# EAGLE library part CSPB-90 (library LW_DUB)
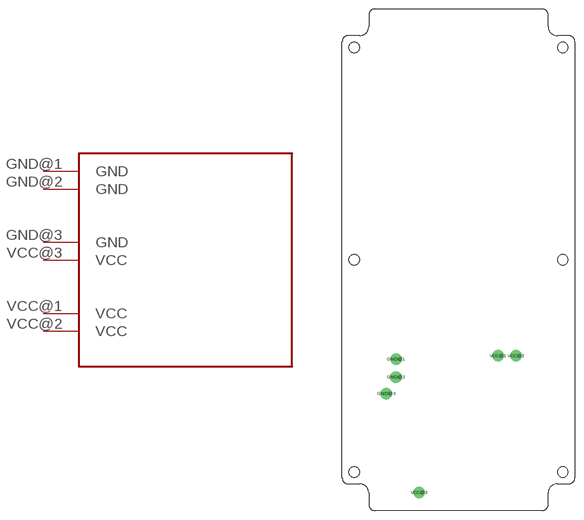
[diagram p14: symbol with the pads of CSPN-90; footprint CSPN-90]

Designator prefix -

## CSPB-90  [CSPN-90]
GND@1  GND
GND@2  GND
GND@3  GND  nc
VCC@1  VCC
VCC@2  VCC
VCC@3  VCC  nc

## Footprint CSPN-90 (pad centres in mm)
drill 1 pad 1.93: GND@1 7.328,23.345; VCC@1 24.384,23.893; VCC@2 27.384,23.891; VCC@3 11.18,1.033
drill 0.9 pad 1.93: GND@2 7.323,20.347; GND@3 5.724,17.579